# EAGLE library part SWITCH (library marionette)
Analog Switches 4 x 1:1 switch, 80 ohms, 2V to 10V, Mfg: NXP, Mfg_PartNo.: 74HC4066D,652 ,Digikey Part No.: 568-3964-5-ND
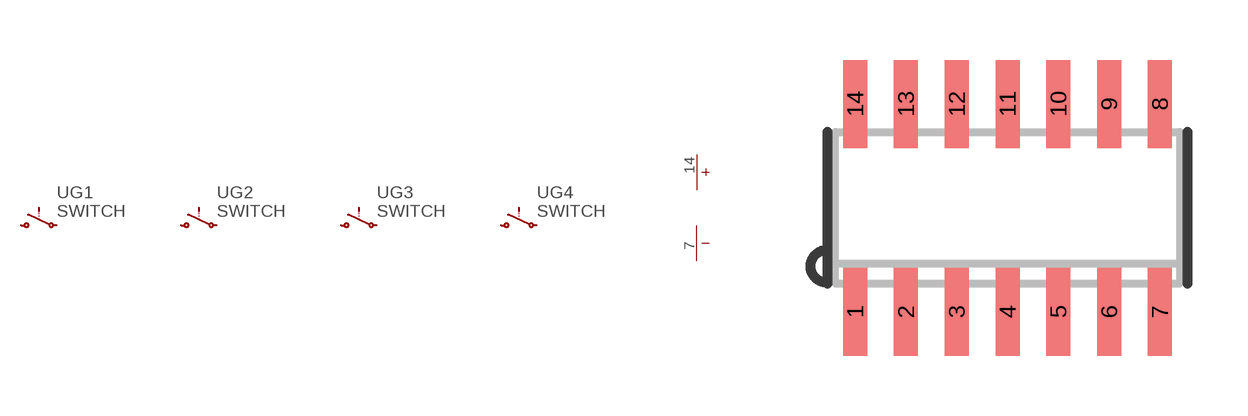
[diagram p10: symbol with the pads of SO14; footprint SO14]

Designator prefix U; gates G1=SPST G2=SPST G3=SPST G4=SPST G5=PWR+-

## SWITCH_74HC4066D  [SO14]
1  G1:Y
2  G1:Z
3  G2:Z
4  G2:Y
5  G2:EN  in
6  G3:EN  in
7  G5:V-  pwr
8  G3:Y
9  G3:Z
10  G4:Z
11  G4:Y
12  G4:EN  in
13  G1:EN  in
14  G5:V+  pwr

## Footprint SO14 (pad centres in mm)
Small Outline Package 14
smd 0.6 x 2.2: 1 -3.81,-2.6; 2 -2.54,-2.6; 3 -1.27,-2.6; 4 0,-2.6; 5 1.27,-2.6; 6 2.54,-2.6; 7 3.81,-2.6; 8 3.81,2.6; 9 2.54,2.6; 10 1.27,2.6; 11 0,2.6; 12 -1.27,2.6; 13 -2.54,2.6; 14 -3.81,2.6